# Altium schematic symbol library passive.SchLib: 5 symbols
Pins are listed as number, name and electrical type; pins without a type are passive.

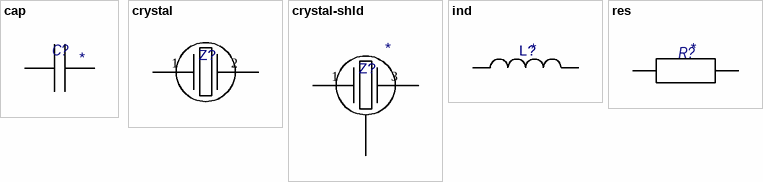
[diagram p0: symbols cap to res]

## cap
designator C?
Value: *
pins: 1, 2

## crystal
designator Z?  (value not drawn)
pins: 1, 2

## crystal-shld
designator Z?
Value: *
pins: 1, 2, 3, 4

## ind
designator L?
Value: *
pins: 1, 2

## res
designator R?
Value: *
pins: 1, 2